# Altium schematic symbol library FAN7391.Schlib: 1 symbol
Pins are listed as number, name and electrical type; pins without a type are passive.

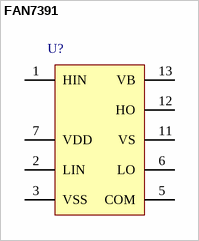
[diagram p0: symbol FAN7391]

## FAN7391
designator U?  (value not drawn)
High-Current, High & Low Side, Gate-Drive IC
pins: 1 HIN, 2 LIN, 3 VSS, 4 NC hidden, 5 COM, 6 LO, 7 VDD, 8 NC hidden, 9 NC hidden, 10 NC hidden, 11 VS, 12 HO, 13 VB, 14 NC hidden